# Altium footprint library VI-201 DIP.PcbLib: 1 footprints
Each footprint in its own frame and in the unit in brackets; x right, y up, seen from the top. Pads: shape width x height; smd on the part's side, far side on the other; paste and mask are expansions set on the pad; w line width, h text height; cw(c..) or ccw(c..) is an arc to the next point about the centre after c.
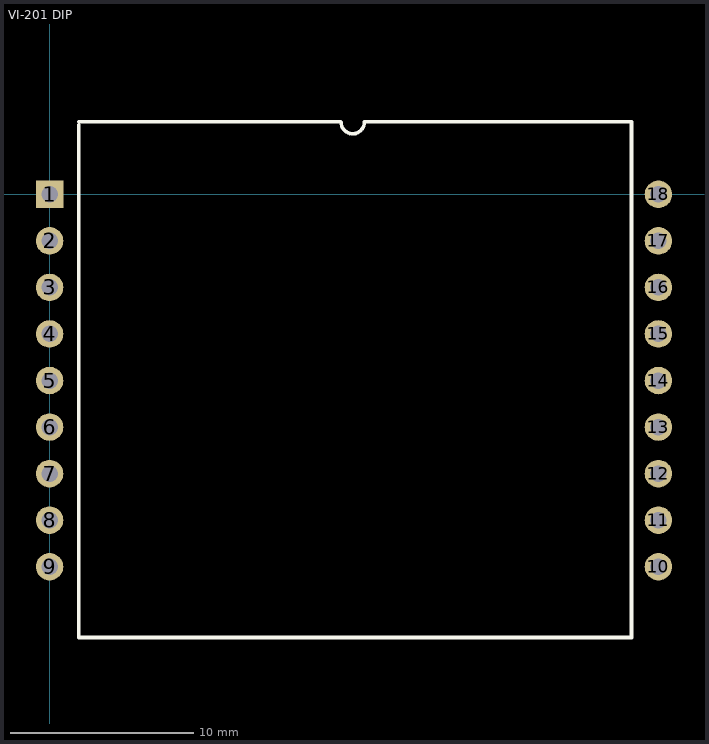
[diagram p0: the footprint, top view; thin cyan lines are the x and y axes]

## VI-201 DIP [mm]
pads (18):
  rect 1.5x1.5 hole 0.9: 1(0,0)
  round 1.5 hole 0.9: 2(0,-2.54) 3(0,-5.08) 4(0,-7.62) 5(0,-10.16) 6(0,-12.7) 7(0,-15.24) 8(0,-17.78) 9(0,-20.32) 10(33.22,-20.32) 11(33.22,-17.78) 12(33.22,-15.24) 13(33.22,-12.7) 14(33.22,-10.16) 15(33.22,-7.62) 16(33.22,-5.08) 17(33.22,-2.54) 18(33.22,0)
Top Overlay:
  lines w0.2: 1.585,-24.181 31.75,-24.181 31.75,3.962 17.17,3.962 ; 1.585,-24.11 1.585,3.79 ; 1.585,3.962 15.875,3.962 ; 15.9,3.937 ccw(c16.535,3.937) 17.17,3.937